# Altium schematic symbol library LED.SchLib: 6 symbols
Pins are listed as number, name and electrical type; pins without a type are passive.

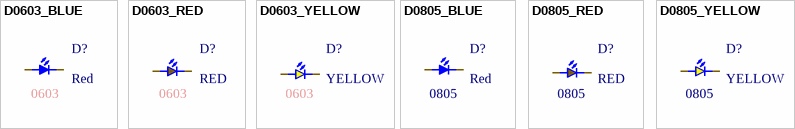
[diagram p0: symbols D0603_BLUE to D0805_YELLOW]

## D0603_BLUE
designator D?, comment Red  Package: 0603
20mA 225mcd Water Clear op View Mount 620nm~630nm Red 120° 50mW 2.3V 0603 LED Indication - Discrete ROHS; Manufacturer: XINGLIGHT; Mfr. Part #: XL-1608SURC-06; LCSC Part #: C965799; Voltage - Forward(Vf): 2.3V; Link: https://www.lcsc.com/product-detail/C965799.html?s_z=n_led%25200603%2520red; Illumination Color: Red
footprint D0603_RED
pins: 1, 2

## D0603_RED
designator D?, comment RED  Package: 0603
25mcd~40mcd Water Clear -40℃~+85℃ 624nm Red 120° 60mW 0402 LED Indication - Discrete ROHS; Manufacturer: XINGLIGHT; Mfr. Part #: XL-1005UGC; Voltage - Forward(Vf): 3V; LCSC Part #: C965793; Power(Watts): 60mW; Link: https://www.lcsc.com/product-detail/C136765.html?s_z=n_LED%25200402%2520RED; Illumination Color: RED
footprint LED0603
pins: 1, 2

## D0603_YELLOW
designator D?, comment YELLOW  Package: 0603
25mcd~40mcd Water Clear -40℃~+85℃ 624nm Red 120° 60mW 0402 LED Indication - Discrete ROHS; Manufacturer: XINGLIGHT; Mfr. Part #: XL-1005UGC; Voltage - Forward(Vf): 3V; LCSC Part #: C965793; Power(Watts): 60mW; Link: https://www.lcsc.com/product-detail/C136765.html?s_z=n_LED%25200402%2520RED; Illumination Color: YELLOW
footprint LED0603
pins: 1, 2

## D0805_BLUE
designator D?, comment Red  Package: 0805
20mA 230mcd Water Clear op View Mount 615nm~630nm Red 120° 2.3V 0805 LED Indication - Discrete ROHS; Manufacturer: XINGLIGHT; Mfr. Part #: XL-2012SURC; LCSC Part #: C965812; Voltage - Forward(Vf): 2.3V; Link: https://www.lcsc.com/product-detail/C965812.html?s_z=n_led%25200805%2520red; Illumination Color: Red
footprint LED0805
pins: 1, 2

## D0805_RED
designator D?, comment RED  Package: 0805
25mcd~40mcd Water Clear -40℃~+85℃ 624nm Red 120° 60mW 0402 LED Indication - Discrete ROHS; Manufacturer: XINGLIGHT; Mfr. Part #: XL-1005UGC; Voltage - Forward(Vf): 3V; LCSC Part #: C965793; Power(Watts): 60mW; Link: https://www.lcsc.com/product-detail/C136765.html?s_z=n_LED%25200402%2520RED; Illumination Color: RED
footprint LED0805
pins: 1, 2

## D0805_YELLOW
designator D?, comment YELLOW  Package: 0805
25mcd~40mcd Water Clear -40℃~+85℃ 624nm Red 120° 60mW 0402 LED Indication - Discrete ROHS; Manufacturer: XINGLIGHT; Mfr. Part #: XL-1005UGC; Voltage - Forward(Vf): 3V; LCSC Part #: C965793; Power(Watts): 60mW; Link: https://www.lcsc.com/product-detail/C136765.html?s_z=n_LED%25200402%2520RED; Illumination Color: YELLOW
footprint LED0805
pins: 1, 2